# EAGLE library part LPC812M101JTB16 (library ic-mcu)
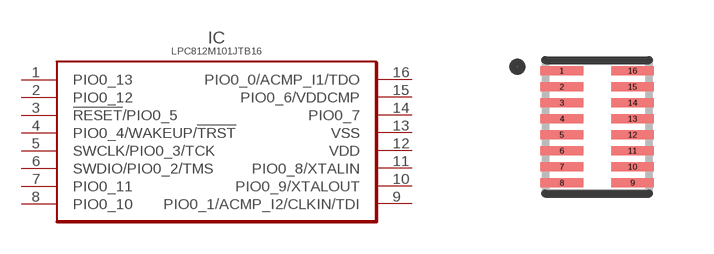
[diagram p0: symbol with the pads of SOT1341-1; footprint SOT1341-1]

Designator prefix IC

## LPC812M101JTB16  [SOT1341-1]
1  PIO0_13  pas
2  PIO0_12  pas
3  !RESET!/PIO0_5  pas
4  PIO0_4/WAKEUP/!TRST!  pas
5  SWCLK/PIO0_3/TCK  pas
6  SWDIO/PIO0_2/TMS  pas
7  PIO0_11  pas
8  PIO0_10  pas
9  PIO0_1/ACMP_I2/CLKIN/TDI  pas
10  PIO0_9/XTALOUT  pas
11  PIO0_8/XTALIN  pas
12  VDD  pas
13  VSS  pas
14  PIO0_7  pas
15  PIO0_6/VDDCMP  pas
16  PIO0_0/ACMP_I1/TDO  pas

## Footprint SOT1341-1 (pad centres in mm)
AKA XSON16
smd 1.07 x 0.22: 1 -0.885,1.4; 2 -0.885,1; 3 -0.885,0.6; 4 -0.885,0.2; 5 -0.885,-0.2; 6 -0.885,-0.6; 7 -0.885,-1; 8 -0.885,-1.4; 9 0.885,-1.4; 10 0.885,-1; 11 0.885,-0.6; 12 0.885,-0.2; 13 0.885,0.2; 14 0.885,0.6; 15 0.885,1; 16 0.885,1.4